# Altium schematic symbol library ZX62D-B-5P8.SchLib: 1 symbol
Pins are listed as number, name and electrical type; pins without a type are passive.

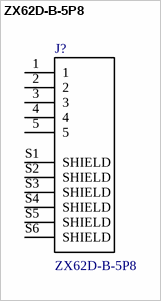
[diagram p0: symbol ZX62D-B-5P8]

## ZX62D-B-5P8
designator J?
SMD+DIP Micro USB; MICRO-B-SMD; MF: Hirose; Package: None; Availability: Unavailable; MP: ZX62D-B-5P8; Price: None; SnapEDA_Link: https://www.snapeda.com/parts/ZX62D-B-5P8/Hirose%20Electric%20Co%20Ltd/view-part/?ref=snap; Value: *
footprint *HRS_ZX62D-B-5P8_ZX62D-B-5P8(Primary)
pins: 1, 2, 3, 4, 5, S1 SHIELD, S2 SHIELD, S3 SHIELD, S4 SHIELD, S5 SHIELD, S6 SHIELD